# EAGLE library part IDC-56 (library con_idc)
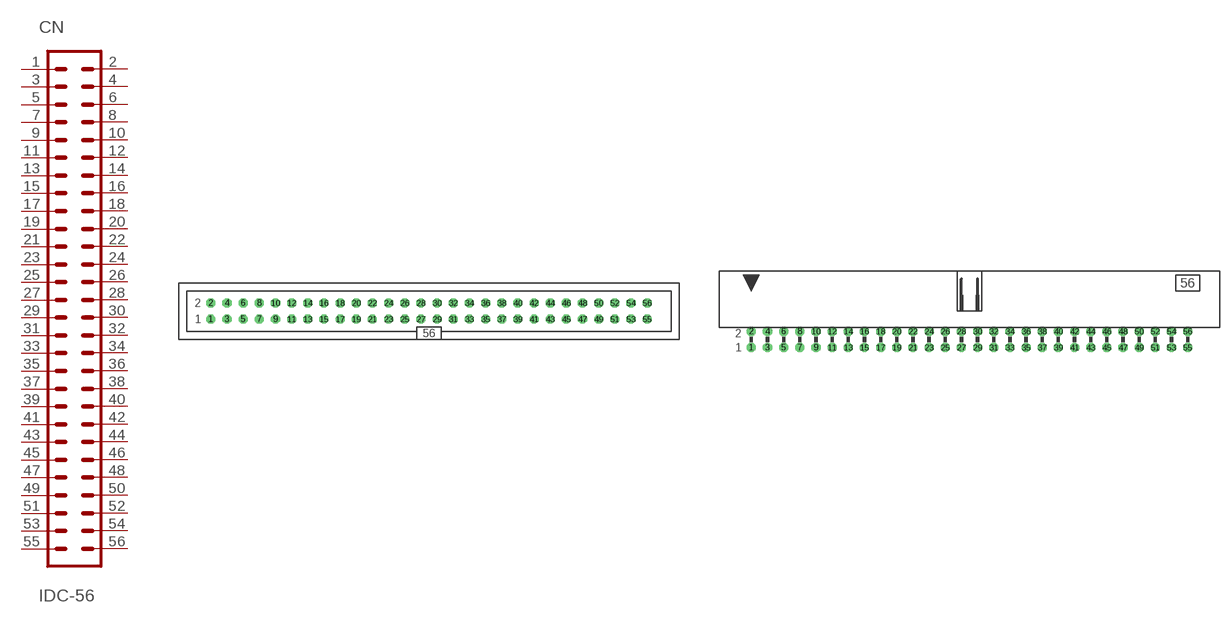
[diagram p11: symbol with the pads of IDCSC-56; footprints IDCSC-56, IDCSN-56]

Designator prefix CN

## IDC-56C  [IDCSC-56]
1  1  pas
2  2  pas
3  3  pas
4  4  pas
5  5  pas
6  6  pas
7  7  pas
8  8  pas
9  9  pas
10  10  pas
11  11  pas
12  12  pas
13  13  pas
14  14  pas
15  15  pas
16  16  pas
17  17  pas
18  18  pas
19  19  pas
20  20  pas
21  21  pas
22  22  pas
23  23  pas
24  24  pas
25  25  pas
26  26  pas
27  27  pas
28  28  pas
29  29  pas
30  30  pas
31  31  pas
32  32  pas
33  33  pas
34  34  pas
35  35  pas
36  36  pas
37  37  pas
38  38  pas
39  39  pas
40  40  pas
41  41  pas
42  42  pas
43  43  pas
44  44  pas
45  45  pas
46  46  pas
47  47  pas
48  48  pas
49  49  pas
50  50  pas
51  51  pas
52  52  pas
53  53  pas
54  54  pas
55  55  pas
56  56  pas

## IDC-56N  [IDCSN-56]
Pads as for IDCSC-56

## Footprint IDCSC-56 (pad centres in mm)
drill 0.914 octagon: 1 -34.29,-1.27; 2 -34.29,1.27; 3 -31.75,-1.27; 4 -31.75,1.27; 5 -29.21,-1.27; 6 -29.21,1.27; 7 -26.67,-1.27; 8 -26.67,1.27; 9 -24.13,-1.27; 10 -24.13,1.27; 11 -21.59,-1.27; 12 -21.59,1.27; 13 -19.05,-1.27; 14 -19.05,1.27; 15 -16.51,-1.27; 16 -16.51,1.27; 17 -13.97,-1.27; 18 -13.97,1.27; 19 -11.43,-1.27; 20 -11.43,1.27; 21 -8.89,-1.27; 22 -8.89,1.27; 23 -6.35,-1.27; 24 -6.35,1.27; 25 -3.81,-1.27; 26 -3.81,1.27; 27 -1.27,-1.27; 28 -1.27,1.27; 29 1.27,-1.27; 30 1.27,1.27; 31 3.81,-1.27; 32 3.81,1.27; 33 6.35,-1.27; 34 6.35,1.27; 35 8.89,-1.27; 36 8.89,1.27; 37 11.43,-1.27; 38 11.43,1.27; 39 13.97,-1.27; 40 13.97,1.27; 41 16.51,-1.27; 42 16.51,1.27; 43 19.05,-1.27; 44 19.05,1.27; 45 21.59,-1.27; 46 21.59,1.27; 47 24.13,-1.27; 48 24.13,1.27; 49 26.67,-1.27; 50 26.67,1.27; 51 29.21,-1.27; 52 29.21,1.27; 53 31.75,-1.27; 54 31.75,1.27; 55 34.29,-1.27; 56 34.29,1.27

## Footprint IDCSN-56 (pad centres in mm)
drill 0.914 octagon: 1 -30.48,-1.27; 2 -30.48,1.27; 3 -27.94,-1.27; 4 -27.94,1.27; 5 -25.4,-1.27; 6 -25.4,1.27; 7 -22.86,-1.27; 8 -22.86,1.27; 9 -20.32,-1.27; 10 -20.32,1.27; 11 -17.78,-1.27; 12 -17.78,1.27; 13 -15.24,-1.27; 14 -15.24,1.27; 15 -12.7,-1.27; 16 -12.7,1.27; 17 -10.16,-1.27; 18 -10.16,1.27; 19 -7.62,-1.27; 20 -7.62,1.27; 21 -5.08,-1.27; 22 -5.08,1.27; 23 -2.54,-1.27; 24 -2.54,1.27; 25 0,-1.27; 26 0,1.27; 27 2.54,-1.27; 28 2.54,1.27; 29 5.08,-1.27; 30 5.08,1.27; 31 7.62,-1.27; 32 7.62,1.27; 33 10.16,-1.27; 34 10.16,1.27; 35 12.7,-1.27; 36 12.7,1.27; 37 15.24,-1.27; 38 15.24,1.27; 39 17.78,-1.27; 40 17.78,1.27; 41 20.32,-1.27; 42 20.32,1.27; 43 22.86,-1.27; 44 22.86,1.27; 45 25.4,-1.27; 46 25.4,1.27; 47 27.94,-1.27; 48 27.94,1.27; 49 30.48,-1.27; 50 30.48,1.27; 51 33.02,-1.27; 52 33.02,1.27; 53 35.56,-1.27; 54 35.56,1.27; 55 38.1,-1.27; 56 38.1,1.27